# Altium schematic symbol library MCT0603MD1000DP500.SchLib: 1 symbol
Pins are listed as number, name and electrical type; pins without a type are passive.

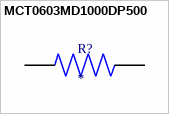
[diagram p0: symbol MCT0603MD1000DP500]

## MCT0603MD1000DP500
designator R?
MP: MCT0603MD1000DP500; MF: {'manufacturer': u'Vishay'}; Price: None; Availability: Unavailable; Value: *; Package: None
footprint RESC1508X55N
pins: 1, 2